# Altium footprint library SW-SMD_8P-L11.1-W6.2-P2.54-LS9.8.PcbLib: 1 footprints
Each footprint in its own frame and in the unit in brackets; x right, y up, seen from the top. Pads: shape width x height; smd on the part's side, far side on the other; paste and mask are expansions set on the pad; w line width, h text height; cw(c..) or ccw(c..) is an arc to the next point about the centre after c.
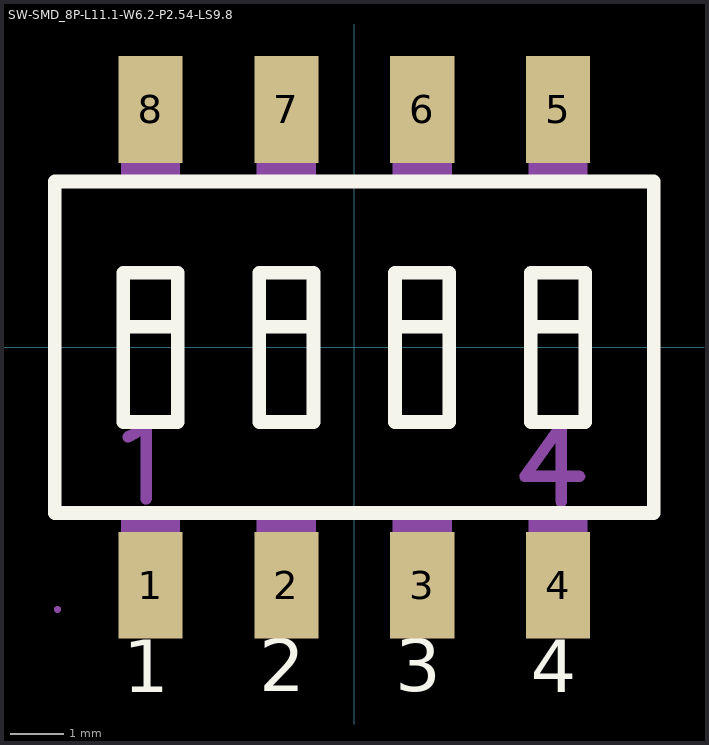
[diagram p0: the footprint, top view; thin cyan lines are the x and y axes]

## SW-SMD_8P-L11.1-W6.2-P2.54-LS9.8 [mm]
pads (8):
  rect 1.2x2 smd paste+0 mask+0.051: 1(-3.81,-4.45) 2(-1.27,-4.45) 3(1.27,-4.45) 4(3.81,-4.45) 5(3.81,4.45) 6(1.27,4.45) 7(-1.27,4.45) 8(-3.81,4.45)
Top Overlay:
  lines w0.254: -4.318,0.381 -3.429,0.381 ; -1.778,0.381 -0.889,0.381 ; 0.762,0.381 1.651,0.381 ; 3.302,0.381 4.191,0.381 ; -5.6,-3.1 -5.6,3.1 5.6,3.1 5.6,-3.1 -5.6,-3.1 ; -4.318,-1.397 -4.318,1.397 -3.302,1.397 -3.302,-1.397 -4.318,-1.397 ; -1.778,-1.397 -1.778,1.397 -0.762,1.397 -0.762,-1.397 -1.778,-1.397 ; 0.762,-1.397 0.762,1.397 1.778,1.397 1.778,-1.397 0.762,-1.397 ; 3.302,-1.397 3.302,1.397 4.318,1.397 4.318,-1.397 3.302,-1.397
  text "4" at 3.302,-6.45 h0.98
  text "3" at 0.762,-6.429 h0.98
  text "2" at -1.778,-6.429 h0.98
  text "1" at -4.318,-6.45 h0.98
Mechanical 6:
  region: 3.295,-2.516 3.771,-2.516 3.771,-2.899 3.773,-2.914 3.774,-2.921 3.779,-2.933 3.782,-2.94 3.79,-2.952 3.799,-2.963 3.805,-2.968 3.814,-2.976 3.827,-2.983 3.839,-2.988 3.861,-2.993 3.88,-2.993 3.894,-2.991 3.905,-2.988 3.925,-2.978 3.938,-2.968 3.949,-2.958 3.958,-2.946 3.966,-2.929 3.971,-2.911 3.973,-2.895 3.974,-2.516 4.218,-2.516 4.233,-2.514 4.241,-2.512 4.257,-2.506 4.27,-2.498 4.282,-2.49 4.293,-2.479 4.3,-2.47 4.311,-2.448 4.316,-2.427 4.316,-2.409 4.312,-2.382 4.301,-2.361 4.293,-2.35 4.283,-2.339 4.269,-2.329 4.255,-2.321 4.226,-2.314 4.217,-2.313 3.973,-2.312 3.973,-1.445 3.965,-1.417 3.956,-1.402 3.949,-1.393 3.936,-1.38 3.927,-1.374 3.915,-1.368 3.903,-1.362 3.886,-1.358 3.866,-1.358 3.85,-1.36 3.836,-1.364 3.823,-1.37 3.801,-1.386 3.8,-1.388 3.77,-1.778 3.769,-2.312 3.393,-2.313
  region: 3.8,-1.389 3.754,-1.448 3.105,-2.361 3.096,-2.376 3.092,-2.394 3.09,-2.416 3.092,-2.437 3.098,-2.453 3.106,-2.471 3.117,-2.484 3.131,-2.497 3.143,-2.504 3.158,-2.51 3.178,-2.515 3.198,-2.516 3.295,-2.516 3.398,-2.302 3.77,-1.779
  region: -3.95,-1.326 -4.152,-1.524 -4.272,-1.584 -4.294,-1.598 -4.302,-1.606 -4.309,-1.613 -4.315,-1.622 -4.323,-1.636 -4.327,-1.647 -4.33,-1.662 -4.331,-1.674 -4.331,-1.686 -4.329,-1.7 -4.324,-1.714 -4.319,-1.726 -4.311,-1.737 -4.302,-1.748 -4.291,-1.758 -4.28,-1.765 -4.268,-1.771 -4.259,-1.774 -4.249,-1.777 -4.238,-1.777 -4.224,-1.778 -4.208,-1.776 -4.195,-1.772 -4.04,-1.696 -4.029,-1.687 -3.99,-1.651 -3.99,-2.843 -3.989,-2.858 -3.985,-2.871 -3.979,-2.885 -3.971,-2.898 -3.964,-2.907 -3.954,-2.916 -3.943,-2.924 -3.933,-2.929 -3.923,-2.934 -3.913,-2.937 -3.898,-2.939 -3.88,-2.939 -3.858,-2.934 -3.844,-2.928 -3.825,-2.917 -3.813,-2.904 -3.804,-2.893 -3.795,-2.874 -3.788,-2.849 -3.788,-2.809 -3.788,-1.387 -3.795,-1.366 -3.805,-1.347 -3.817,-1.334 -3.828,-1.324 -3.841,-1.316 -3.852,-1.311 -3.865,-1.306 -3.881,-1.303 -3.903,-1.304 -3.92,-1.309 -3.934,-1.313 -3.95,-1.325
Mechanical 15:
  region: 4.36,4.21 4.36,3.09 3.26,3.09 3.26,4.21
  region: 1.82,4.21 1.82,3.09 0.72,3.09 0.72,4.21
  region: -0.72,4.21 -0.72,3.09 -1.82,3.09 -1.82,4.21
  region: -3.26,4.21 -3.26,3.09 -4.36,3.09 -4.36,4.21
  region: 3.26,-4.21 3.26,-3.09 4.36,-3.09 4.36,-4.21
  region: 0.72,-4.21 0.72,-3.09 1.82,-3.09 1.82,-4.21
  region: -4.36,-4.21 -4.36,-3.09 -3.26,-3.09 -3.26,-4.21
  region: -4.06,-4.9 -4.06,-4.2 -3.56,-4.2 -3.56,-4.9
  region: -1.52,-4.9 -1.52,-4.2 -1.02,-4.2 -1.02,-4.9
  region: -1.82,-4.21 -1.82,-3.09 -0.72,-3.09 -0.72,-4.21
  region: 1.02,-4.9 1.02,-4.2 1.52,-4.2 1.52,-4.9
  region: 1.02,4.2 1.02,4.9 1.52,4.9 1.52,4.2
  region: -1.52,4.2 -1.52,4.9 -1.02,4.9 -1.02,4.2
  region: -4.06,4.2 -4.06,4.9 -3.56,4.9 -3.56,4.2
  region: 3.56,-4.9 3.56,-4.2 4.06,-4.2 4.06,-4.9
  region: 3.56,4.2 3.56,4.9 4.06,4.9 4.06,4.2
  region: -5.49,-4.9 -5.49,-4.875 -5.525,-4.84 -5.575,-4.84 -5.61,-4.875 -5.61,-4.9 -5.61,-4.925 -5.575,-4.96 -5.525,-4.96 -5.49,-4.925 -5.49,-4.9
  lines w0.051: -5.55,-3.1 5.55,-3.1 5.55,3.1 -5.55,3.1 -5.55,-3.1